# Altium schematic symbol library Connector_Generic_Shielded.SchLib: 335 symbols (part 7 of 8)
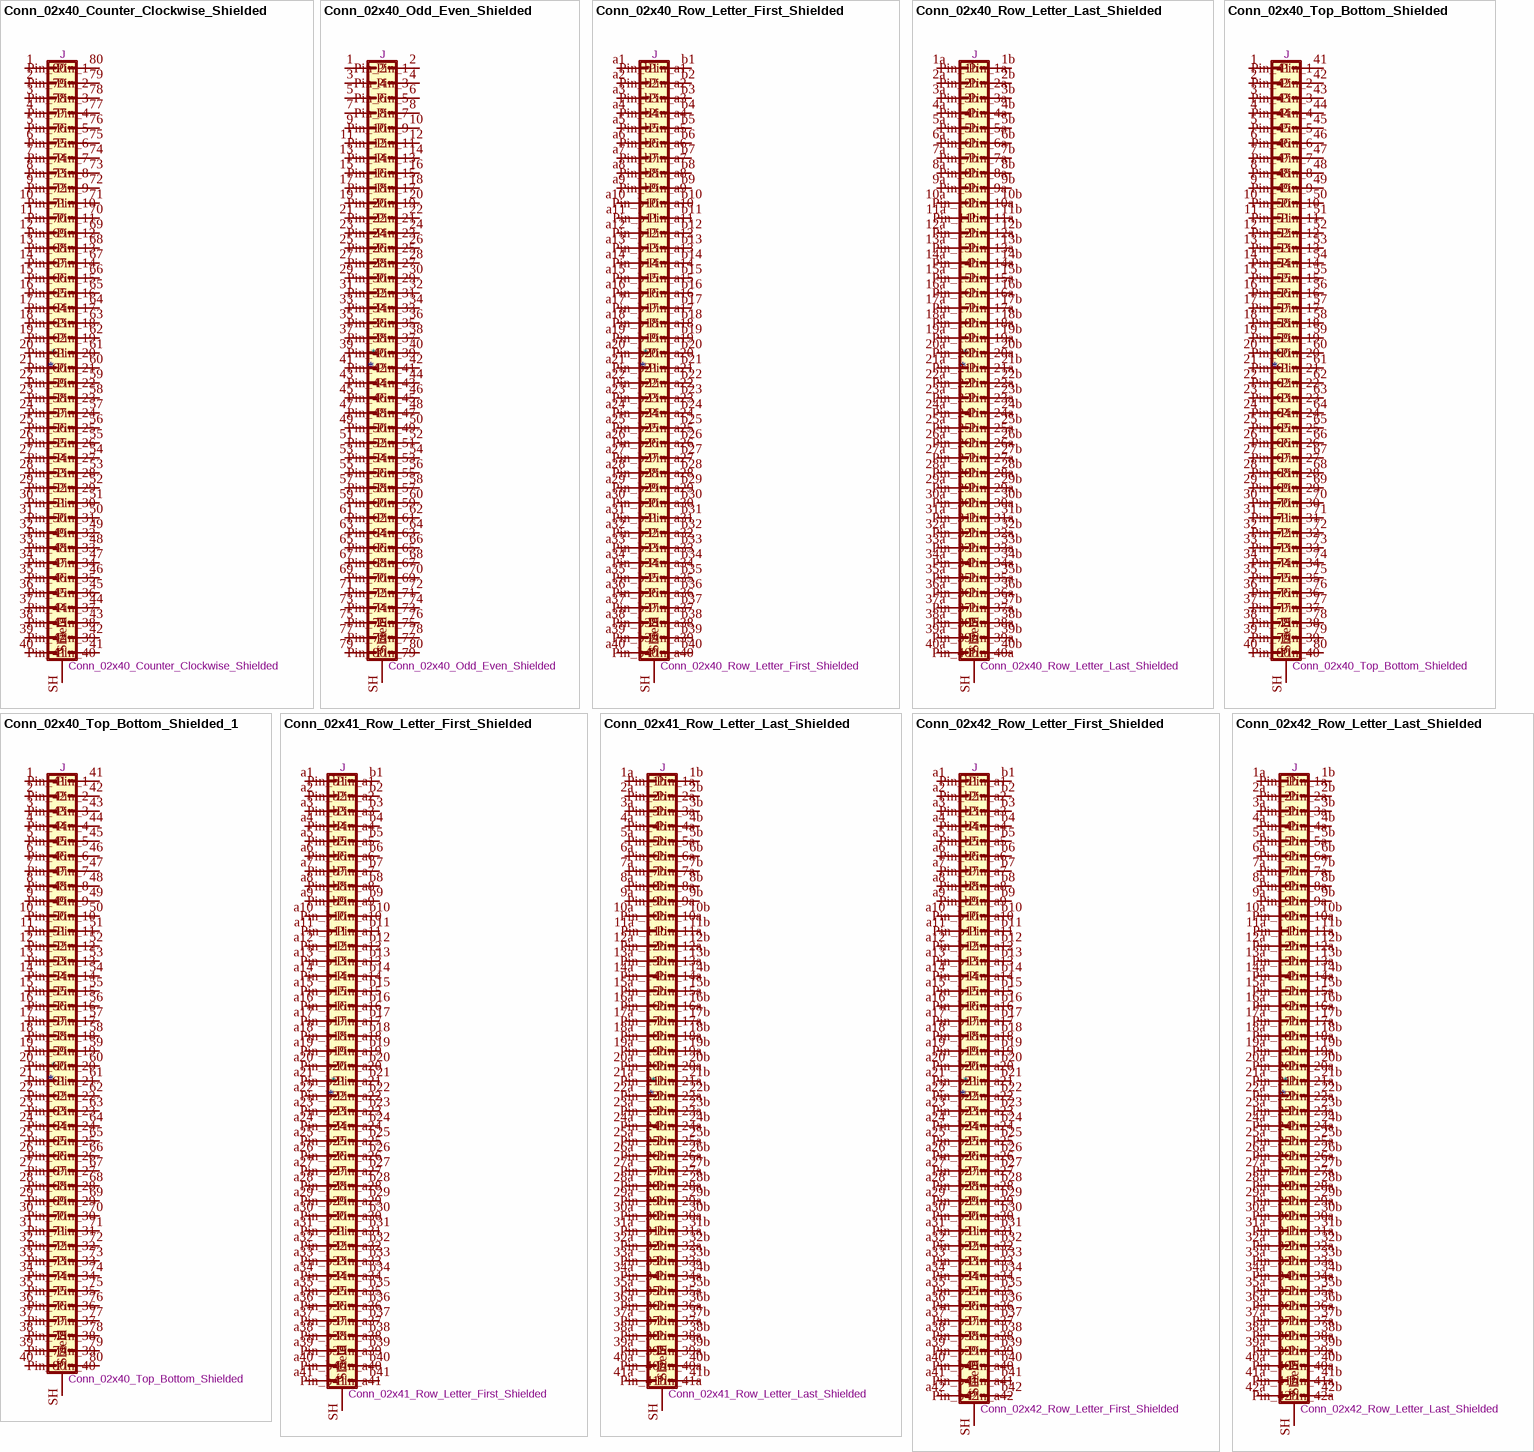
[diagram p31: symbols Conn_02x40_Counter_Clockwise_Shielded to Conn_02x42_Row_Letter_Last_Shielded]

## Conn_02x40_Odd_Even_Shielded
designator *  value Conn_02x40_Odd_Even_Shielded  Reference: J
Generic shielded connector, double row, 02x40, odd/even pin numbering scheme (row 1 odd numbers, row 2 even numbers), script generated (kicad-library-utils/schlib/autogen/connector/); ki_fp_filters: Connector*:*_2x??-1SH*; Datasheet: ~; Description_: Generic shielded connector, double row, 02x40, odd/even pin numbering scheme (row 1 odd numbers, row 2 even numbers), script generated (kicad-library-utils/schlib/autogen/connector/); ki_keywords: connector
pins: 1 Pin_1, 2 Pin_2, 3 Pin_3, 4 Pin_4, 5 Pin_5, 6 Pin_6, 7 Pin_7, 8 Pin_8, 9 Pin_9, 10 Pin_10, 11 Pin_11, 12 Pin_12, 13 Pin_13, 14 Pin_14, 15 Pin_15, 16 Pin_16, 17 Pin_17, 18 Pin_18, 19 Pin_19, 20 Pin_20, 21 Pin_21, 22 Pin_22, 23 Pin_23, 24 Pin_24, 25 Pin_25, 26 Pin_26, 27 Pin_27, 28 Pin_28, 29 Pin_29, 30 Pin_30, 31 Pin_31, 32 Pin_32, 33 Pin_33, 34 Pin_34, 35 Pin_35, 36 Pin_36, 37 Pin_37, 38 Pin_38, 39 Pin_39, 40 Pin_40, 41 Pin_41, 42 Pin_42, 43 Pin_43, 44 Pin_44, 45 Pin_45, 46 Pin_46, 47 Pin_47, 48 Pin_48, 49 Pin_49, 50 Pin_50, 51 Pin_51, 52 Pin_52, 53 Pin_53, 54 Pin_54, 55 Pin_55, 56 Pin_56, 57 Pin_57, 58 Pin_58, 59 Pin_59, 60 Pin_60, 61 Pin_61, 62 Pin_62, 63 Pin_63, 64 Pin_64, 65 Pin_65, 66 Pin_66, 67 Pin_67, 68 Pin_68, 69 Pin_69, 70 Pin_70, 71 Pin_71, 72 Pin_72, 73 Pin_73, 74 Pin_74, 75 Pin_75, 76 Pin_76, 77 Pin_77, 78 Pin_78, 79 Pin_79, 80 Pin_80, SH Shield

## Conn_02x40_Row_Letter_First_Shielded
designator *  value Conn_02x40_Row_Letter_First_Shielded  Reference: J
Generic shielded connector, double row, 02x40, row letter first pin numbering scheme (pin number consists of a letter for the row and a number for the pin index in this row. a1, ..., aN; b1, ..., bN), script generated (kicad-library-utils/schlib/autogen/connector/); ki_fp_filters: Connector*:*_2x??-1SH*; Datasheet: ~; Description_: Generic shielded connector, double row, 02x40, row letter first pin numbering scheme (pin number consists of a letter for the row and a number for the pin index in this row. a1, ..., aN; b1, ..., bN), script generated (kicad-library-utils/schlib/autogen/connector/); ki_keywords: connector
pins: a1 Pin_a1, a2 Pin_a2, a3 Pin_a3, a4 Pin_a4, a5 Pin_a5, a6 Pin_a6, a7 Pin_a7, a8 Pin_a8, a9 Pin_a9, a10 Pin_a10, a11 Pin_a11, a12 Pin_a12, a13 Pin_a13, a14 Pin_a14, a15 Pin_a15, a16 Pin_a16, a17 Pin_a17, a18 Pin_a18, a19 Pin_a19, a20 Pin_a20, a21 Pin_a21, a22 Pin_a22, a23 Pin_a23, a24 Pin_a24, a25 Pin_a25, a26 Pin_a26, a27 Pin_a27, a28 Pin_a28, a29 Pin_a29, a30 Pin_a30, a31 Pin_a31, a32 Pin_a32, a33 Pin_a33, a34 Pin_a34, a35 Pin_a35, a36 Pin_a36, a37 Pin_a37, a38 Pin_a38, a39 Pin_a39, a40 Pin_a40, b1 Pin_b1, b2 Pin_b2, b3 Pin_b3, b4 Pin_b4, b5 Pin_b5, b6 Pin_b6, b7 Pin_b7, b8 Pin_b8, b9 Pin_b9, b10 Pin_b10, b11 Pin_b11, b12 Pin_b12, b13 Pin_b13, b14 Pin_b14, b15 Pin_b15, b16 Pin_b16, b17 Pin_b17, b18 Pin_b18, b19 Pin_b19, b20 Pin_b20, b21 Pin_b21, b22 Pin_b22, b23 Pin_b23, b24 Pin_b24, b25 Pin_b25, b26 Pin_b26, b27 Pin_b27, b28 Pin_b28, b29 Pin_b29, b30 Pin_b30, b31 Pin_b31, b32 Pin_b32, b33 Pin_b33, b34 Pin_b34, b35 Pin_b35, b36 Pin_b36, b37 Pin_b37, b38 Pin_b38, b39 Pin_b39, b40 Pin_b40, SH Shield

## Conn_02x40_Row_Letter_Last_Shielded
designator *  value Conn_02x40_Row_Letter_Last_Shielded  Reference: J
Generic shielded connector, double row, 02x40, row letter last pin numbering scheme (pin number consists of a letter for the row and a number for the pin index in this row. 1a, ..., Na; 1b, ..., Nb)), script generated (kicad-library-utils/schlib/autogen/connector/); ki_fp_filters: Connector*:*_2x??-1SH*; Datasheet: ~; Description_: Generic shielded connector, double row, 02x40, row letter last pin numbering scheme (pin number consists of a letter for the row and a number for the pin index in this row. 1a, ..., Na; 1b, ..., Nb)), script generated (kicad-library-utils/schlib/autogen/connector/); ki_keywords: connector
pins: 1a Pin_1a, 1b Pin_1b, 2a Pin_2a, 2b Pin_2b, 3a Pin_3a, 3b Pin_3b, 4a Pin_4a, 4b Pin_4b, 5a Pin_5a, 5b Pin_5b, 6a Pin_6a, 6b Pin_6b, 7a Pin_7a, 7b Pin_7b, 8a Pin_8a, 8b Pin_8b, 9a Pin_9a, 9b Pin_9b, 10a Pin_10a, 10b Pin_10b, 11a Pin_11a, 11b Pin_11b, 12a Pin_12a, 12b Pin_12b, 13a Pin_13a, 13b Pin_13b, 14a Pin_14a, 14b Pin_14b, 15a Pin_15a, 15b Pin_15b, 16a Pin_16a, 16b Pin_16b, 17a Pin_17a, 17b Pin_17b, 18a Pin_18a, 18b Pin_18b, 19a Pin_19a, 19b Pin_19b, 20a Pin_20a, 20b Pin_20b, 21a Pin_21a, 21b Pin_21b, 22a Pin_22a, 22b Pin_22b, 23a Pin_23a, 23b Pin_23b, 24a Pin_24a, 24b Pin_24b, 25a Pin_25a, 25b Pin_25b, 26a Pin_26a, 26b Pin_26b, 27a Pin_27a, 27b Pin_27b, 28a Pin_28a, 28b Pin_28b, 29a Pin_29a, 29b Pin_29b, 30a Pin_30a, 30b Pin_30b, 31a Pin_31a, 31b Pin_31b, 32a Pin_32a, 32b Pin_32b, 33a Pin_33a, 33b Pin_33b, 34a Pin_34a, 34b Pin_34b, 35a Pin_35a, 35b Pin_35b, 36a Pin_36a, 36b Pin_36b, 37a Pin_37a, 37b Pin_37b, 38a Pin_38a, 38b Pin_38b, 39a Pin_39a, 39b Pin_39b, 40a Pin_40a, 40b Pin_40b, SH Shield

## Conn_02x40_Top_Bottom_Shielded
designator *  value Conn_02x40_Top_Bottom_Shielded  Reference: J
Generic shielded connector, double row, 02x40, top/bottom pin numbering scheme (row 1: 1...pins_per_row, row2: pins_per_row+1 ... num_pins), script generated (kicad-library-utils/schlib/autogen/connector/); ki_fp_filters: Connector*:*_2x??-1SH*; Datasheet: ~; Description_: Generic shielded connector, double row, 02x40, top/bottom pin numbering scheme (row 1: 1...pins_per_row, row2: pins_per_row+1 ... num_pins), script generated (kicad-library-utils/schlib/autogen/connector/); ki_keywords: connector
pins: 1 Pin_1, 2 Pin_2, 3 Pin_3, 4 Pin_4, 5 Pin_5, 6 Pin_6, 7 Pin_7, 8 Pin_8, 9 Pin_9, 10 Pin_10, 11 Pin_11, 12 Pin_12, 13 Pin_13, 14 Pin_14, 15 Pin_15, 16 Pin_16, 17 Pin_17, 18 Pin_18, 19 Pin_19, 20 Pin_20, 21 Pin_21, 22 Pin_22, 23 Pin_23, 24 Pin_24, 25 Pin_25, 26 Pin_26, 27 Pin_27, 28 Pin_28, 29 Pin_29, 30 Pin_30, 31 Pin_31, 32 Pin_32, 33 Pin_33, 34 Pin_34, 35 Pin_35, 36 Pin_36, 37 Pin_37, 38 Pin_38, 39 Pin_39, 40 Pin_40, 41 Pin_41, 42 Pin_42, 43 Pin_43, 44 Pin_44, 45 Pin_45, 46 Pin_46, 47 Pin_47, 48 Pin_48, 49 Pin_49, 50 Pin_50, 51 Pin_51, 52 Pin_52, 53 Pin_53, 54 Pin_54, 55 Pin_55, 56 Pin_56, 57 Pin_57, 58 Pin_58, 59 Pin_59, 60 Pin_60, 61 Pin_61, 62 Pin_62, 63 Pin_63, 64 Pin_64, 65 Pin_65, 66 Pin_66, 67 Pin_67, 68 Pin_68, 69 Pin_69, 70 Pin_70, 71 Pin_71, 72 Pin_72, 73 Pin_73, 74 Pin_74, 75 Pin_75, 76 Pin_76, 77 Pin_77, 78 Pin_78, 79 Pin_79, 80 Pin_80, SH Shield

## Conn_02x40_Top_Bottom_Shielded_1
designator *  value Conn_02x40_Top_Bottom_Shielded  Reference: J
"Generic shielded connector, double row, 02x40, top/bottom pin numbering scheme (row 1: 1...pins_per_row, row2: pins_per_row+1 ... num_pins), script generated"; ki_fp_filters: Connector*:*_2x??-1SH*; Datasheet: ~; Description_: "Generic shielded connector, double row, 02x40, top/bottom pin numbering scheme (row 1: 1...pins_per_row, row2: pins_per_row+1 ... num_pins), script generated"; ki_keywords: connector
pins: 1 Pin_1, 2 Pin_2, 3 Pin_3, 4 Pin_4, 5 Pin_5, 6 Pin_6, 7 Pin_7, 8 Pin_8, 9 Pin_9, 10 Pin_10, 11 Pin_11, 12 Pin_12, 13 Pin_13, 14 Pin_14, 15 Pin_15, 16 Pin_16, 17 Pin_17, 18 Pin_18, 19 Pin_19, 20 Pin_20, 21 Pin_21, 22 Pin_22, 23 Pin_23, 24 Pin_24, 25 Pin_25, 26 Pin_26, 27 Pin_27, 28 Pin_28, 29 Pin_29, 30 Pin_30, 31 Pin_31, 32 Pin_32, 33 Pin_33, 34 Pin_34, 35 Pin_35, 36 Pin_36, 37 Pin_37, 38 Pin_38, 39 Pin_39, 40 Pin_40, 41 Pin_41, 42 Pin_42, 43 Pin_43, 44 Pin_44, 45 Pin_45, 46 Pin_46, 47 Pin_47, 48 Pin_48, 49 Pin_49, 50 Pin_50, 51 Pin_51, 52 Pin_52, 53 Pin_53, 54 Pin_54, 55 Pin_55, 56 Pin_56, 57 Pin_57, 58 Pin_58, 59 Pin_59, 60 Pin_60, 61 Pin_61, 62 Pin_62, 63 Pin_63, 64 Pin_64, 65 Pin_65, 66 Pin_66, 67 Pin_67, 68 Pin_68, 69 Pin_69, 70 Pin_70, 71 Pin_71, 72 Pin_72, 73 Pin_73, 74 Pin_74, 75 Pin_75, 76 Pin_76, 77 Pin_77, 78 Pin_78, 79 Pin_79, 80 Pin_80, SH Shield

## Conn_02x41_Row_Letter_First_Shielded
designator *  value Conn_02x41_Row_Letter_First_Shielded  Reference: J
"Generic shielded connector, double row, 02x41, row letter first pin numbering scheme (pin number consists of a letter for the row and a number for the pin index in this row. a1, ..., aN; b1, ..., bN), script generated"; ki_fp_filters: Connector*:*_2x??-1SH*; Datasheet: ~; Description_: "Generic shielded connector, double row, 02x41, row letter first pin numbering scheme (pin number consists of a letter for the row and a number for the pin index in this row. a1, ..., aN; b1, ..., bN), script generated"; ki_keywords: connector
pins: a1 Pin_a1, a2 Pin_a2, a3 Pin_a3, a4 Pin_a4, a5 Pin_a5, a6 Pin_a6, a7 Pin_a7, a8 Pin_a8, a9 Pin_a9, a10 Pin_a10, a11 Pin_a11, a12 Pin_a12, a13 Pin_a13, a14 Pin_a14, a15 Pin_a15, a16 Pin_a16, a17 Pin_a17, a18 Pin_a18, a19 Pin_a19, a20 Pin_a20, a21 Pin_a21, a22 Pin_a22, a23 Pin_a23, a24 Pin_a24, a25 Pin_a25, a26 Pin_a26, a27 Pin_a27, a28 Pin_a28, a29 Pin_a29, a30 Pin_a30, a31 Pin_a31, a32 Pin_a32, a33 Pin_a33, a34 Pin_a34, a35 Pin_a35, a36 Pin_a36, a37 Pin_a37, a38 Pin_a38, a39 Pin_a39, a40 Pin_a40, a41 Pin_a41, b1 Pin_b1, b2 Pin_b2, b3 Pin_b3, b4 Pin_b4, b5 Pin_b5, b6 Pin_b6, b7 Pin_b7, b8 Pin_b8, b9 Pin_b9, b10 Pin_b10, b11 Pin_b11, b12 Pin_b12, b13 Pin_b13, b14 Pin_b14, b15 Pin_b15, b16 Pin_b16, b17 Pin_b17, b18 Pin_b18, b19 Pin_b19, b20 Pin_b20, b21 Pin_b21, b22 Pin_b22, b23 Pin_b23, b24 Pin_b24, b25 Pin_b25, b26 Pin_b26, b27 Pin_b27, b28 Pin_b28, b29 Pin_b29, b30 Pin_b30, b31 Pin_b31, b32 Pin_b32, b33 Pin_b33, b34 Pin_b34, b35 Pin_b35, b36 Pin_b36, b37 Pin_b37, b38 Pin_b38, b39 Pin_b39, b40 Pin_b40, b41 Pin_b41, SH Shield

## Conn_02x41_Row_Letter_Last_Shielded
designator *  value Conn_02x41_Row_Letter_Last_Shielded  Reference: J
"Generic shielded connector, double row, 02x41, row letter last pin numbering scheme (pin number consists of a number for the row and a letter for the pin index in this row. 1a, ..., Na; 1b, ..., Nb)), script generated"; ki_fp_filters: Connector*:*_2x??-1SH*; Datasheet: ~; Description_: "Generic shielded connector, double row, 02x41, row letter last pin numbering scheme (pin number consists of a number for the row and a letter for the pin index in this row. 1a, ..., Na; 1b, ..., Nb)), script generated"; ki_keywords: connector
pins: 1a Pin_1a, 1b Pin_1b, 2a Pin_2a, 2b Pin_2b, 3a Pin_3a, 3b Pin_3b, 4a Pin_4a, 4b Pin_4b, 5a Pin_5a, 5b Pin_5b, 6a Pin_6a, 6b Pin_6b, 7a Pin_7a, 7b Pin_7b, 8a Pin_8a, 8b Pin_8b, 9a Pin_9a, 9b Pin_9b, 10a Pin_10a, 10b Pin_10b, 11a Pin_11a, 11b Pin_11b, 12a Pin_12a, 12b Pin_12b, 13a Pin_13a, 13b Pin_13b, 14a Pin_14a, 14b Pin_14b, 15a Pin_15a, 15b Pin_15b, 16a Pin_16a, 16b Pin_16b, 17a Pin_17a, 17b Pin_17b, 18a Pin_18a, 18b Pin_18b, 19a Pin_19a, 19b Pin_19b, 20a Pin_20a, 20b Pin_20b, 21a Pin_21a, 21b Pin_21b, 22a Pin_22a, 22b Pin_22b, 23a Pin_23a, 23b Pin_23b, 24a Pin_24a, 24b Pin_24b, 25a Pin_25a, 25b Pin_25b, 26a Pin_26a, 26b Pin_26b, 27a Pin_27a, 27b Pin_27b, 28a Pin_28a, 28b Pin_28b, 29a Pin_29a, 29b Pin_29b, 30a Pin_30a, 30b Pin_30b, 31a Pin_31a, 31b Pin_31b, 32a Pin_32a, 32b Pin_32b, 33a Pin_33a, 33b Pin_33b, 34a Pin_34a, 34b Pin_34b, 35a Pin_35a, 35b Pin_35b, 36a Pin_36a, 36b Pin_36b, 37a Pin_37a, 37b Pin_37b, 38a Pin_38a, 38b Pin_38b, 39a Pin_39a, 39b Pin_39b, 40a Pin_40a, 40b Pin_40b, 41a Pin_41a, 41b Pin_41b, SH Shield

## Conn_02x42_Row_Letter_First_Shielded
designator *  value Conn_02x42_Row_Letter_First_Shielded  Reference: J
"Generic shielded connector, double row, 02x42, row letter first pin numbering scheme (pin number consists of a letter for the row and a number for the pin index in this row. a1, ..., aN; b1, ..., bN), script generated"; ki_fp_filters: Connector*:*_2x??-1SH*; Datasheet: ~; Description_: "Generic shielded connector, double row, 02x42, row letter first pin numbering scheme (pin number consists of a letter for the row and a number for the pin index in this row. a1, ..., aN; b1, ..., bN), script generated"; ki_keywords: connector
pins: a1 Pin_a1, a2 Pin_a2, a3 Pin_a3, a4 Pin_a4, a5 Pin_a5, a6 Pin_a6, a7 Pin_a7, a8 Pin_a8, a9 Pin_a9, a10 Pin_a10, a11 Pin_a11, a12 Pin_a12, a13 Pin_a13, a14 Pin_a14, a15 Pin_a15, a16 Pin_a16, a17 Pin_a17, a18 Pin_a18, a19 Pin_a19, a20 Pin_a20, a21 Pin_a21, a22 Pin_a22, a23 Pin_a23, a24 Pin_a24, a25 Pin_a25, a26 Pin_a26, a27 Pin_a27, a28 Pin_a28, a29 Pin_a29, a30 Pin_a30, a31 Pin_a31, a32 Pin_a32, a33 Pin_a33, a34 Pin_a34, a35 Pin_a35, a36 Pin_a36, a37 Pin_a37, a38 Pin_a38, a39 Pin_a39, a40 Pin_a40, a41 Pin_a41, a42 Pin_a42, b1 Pin_b1, b2 Pin_b2, b3 Pin_b3, b4 Pin_b4, b5 Pin_b5, b6 Pin_b6, b7 Pin_b7, b8 Pin_b8, b9 Pin_b9, b10 Pin_b10, b11 Pin_b11, b12 Pin_b12, b13 Pin_b13, b14 Pin_b14, b15 Pin_b15, b16 Pin_b16, b17 Pin_b17, b18 Pin_b18, b19 Pin_b19, b20 Pin_b20, b21 Pin_b21, b22 Pin_b22, b23 Pin_b23, b24 Pin_b24, b25 Pin_b25, b26 Pin_b26, b27 Pin_b27, b28 Pin_b28, b29 Pin_b29, b30 Pin_b30, b31 Pin_b31, b32 Pin_b32, b33 Pin_b33, b34 Pin_b34, b35 Pin_b35, b36 Pin_b36, b37 Pin_b37, b38 Pin_b38, b39 Pin_b39, b40 Pin_b40, b41 Pin_b41, b42 Pin_b42, SH Shield

## Conn_02x42_Row_Letter_Last_Shielded
designator *  value Conn_02x42_Row_Letter_Last_Shielded  Reference: J
"Generic shielded connector, double row, 02x42, row letter last pin numbering scheme (pin number consists of a number for the row and a letter for the pin index in this row. 1a, ..., Na; 1b, ..., Nb)), script generated"; ki_fp_filters: Connector*:*_2x??-1SH*; Datasheet: ~; Description_: "Generic shielded connector, double row, 02x42, row letter last pin numbering scheme (pin number consists of a number for the row and a letter for the pin index in this row. 1a, ..., Na; 1b, ..., Nb)), script generated"; ki_keywords: connector
pins: 1a Pin_1a, 1b Pin_1b, 2a Pin_2a, 2b Pin_2b, 3a Pin_3a, 3b Pin_3b, 4a Pin_4a, 4b Pin_4b, 5a Pin_5a, 5b Pin_5b, 6a Pin_6a, 6b Pin_6b, 7a Pin_7a, 7b Pin_7b, 8a Pin_8a, 8b Pin_8b, 9a Pin_9a, 9b Pin_9b, 10a Pin_10a, 10b Pin_10b, 11a Pin_11a, 11b Pin_11b, 12a Pin_12a, 12b Pin_12b, 13a Pin_13a, 13b Pin_13b, 14a Pin_14a, 14b Pin_14b, 15a Pin_15a, 15b Pin_15b, 16a Pin_16a, 16b Pin_16b, 17a Pin_17a, 17b Pin_17b, 18a Pin_18a, 18b Pin_18b, 19a Pin_19a, 19b Pin_19b, 20a Pin_20a, 20b Pin_20b, 21a Pin_21a, 21b Pin_21b, 22a Pin_22a, 22b Pin_22b, 23a Pin_23a, 23b Pin_23b, 24a Pin_24a, 24b Pin_24b, 25a Pin_25a, 25b Pin_25b, 26a Pin_26a, 26b Pin_26b, 27a Pin_27a, 27b Pin_27b, 28a Pin_28a, 28b Pin_28b, 29a Pin_29a, 29b Pin_29b, 30a Pin_30a, 30b Pin_30b, 31a Pin_31a, 31b Pin_31b, 32a Pin_32a, 32b Pin_32b, 33a Pin_33a, 33b Pin_33b, 34a Pin_34a, 34b Pin_34b, 35a Pin_35a, 35b Pin_35b, 36a Pin_36a, 36b Pin_36b, 37a Pin_37a, 37b Pin_37b, 38a Pin_38a, 38b Pin_38b, 39a Pin_39a, 39b Pin_39b, 40a Pin_40a, 40b Pin_40b, 41a Pin_41a, 41b Pin_41b, 42a Pin_42a, 42b Pin_42b, SH Shield

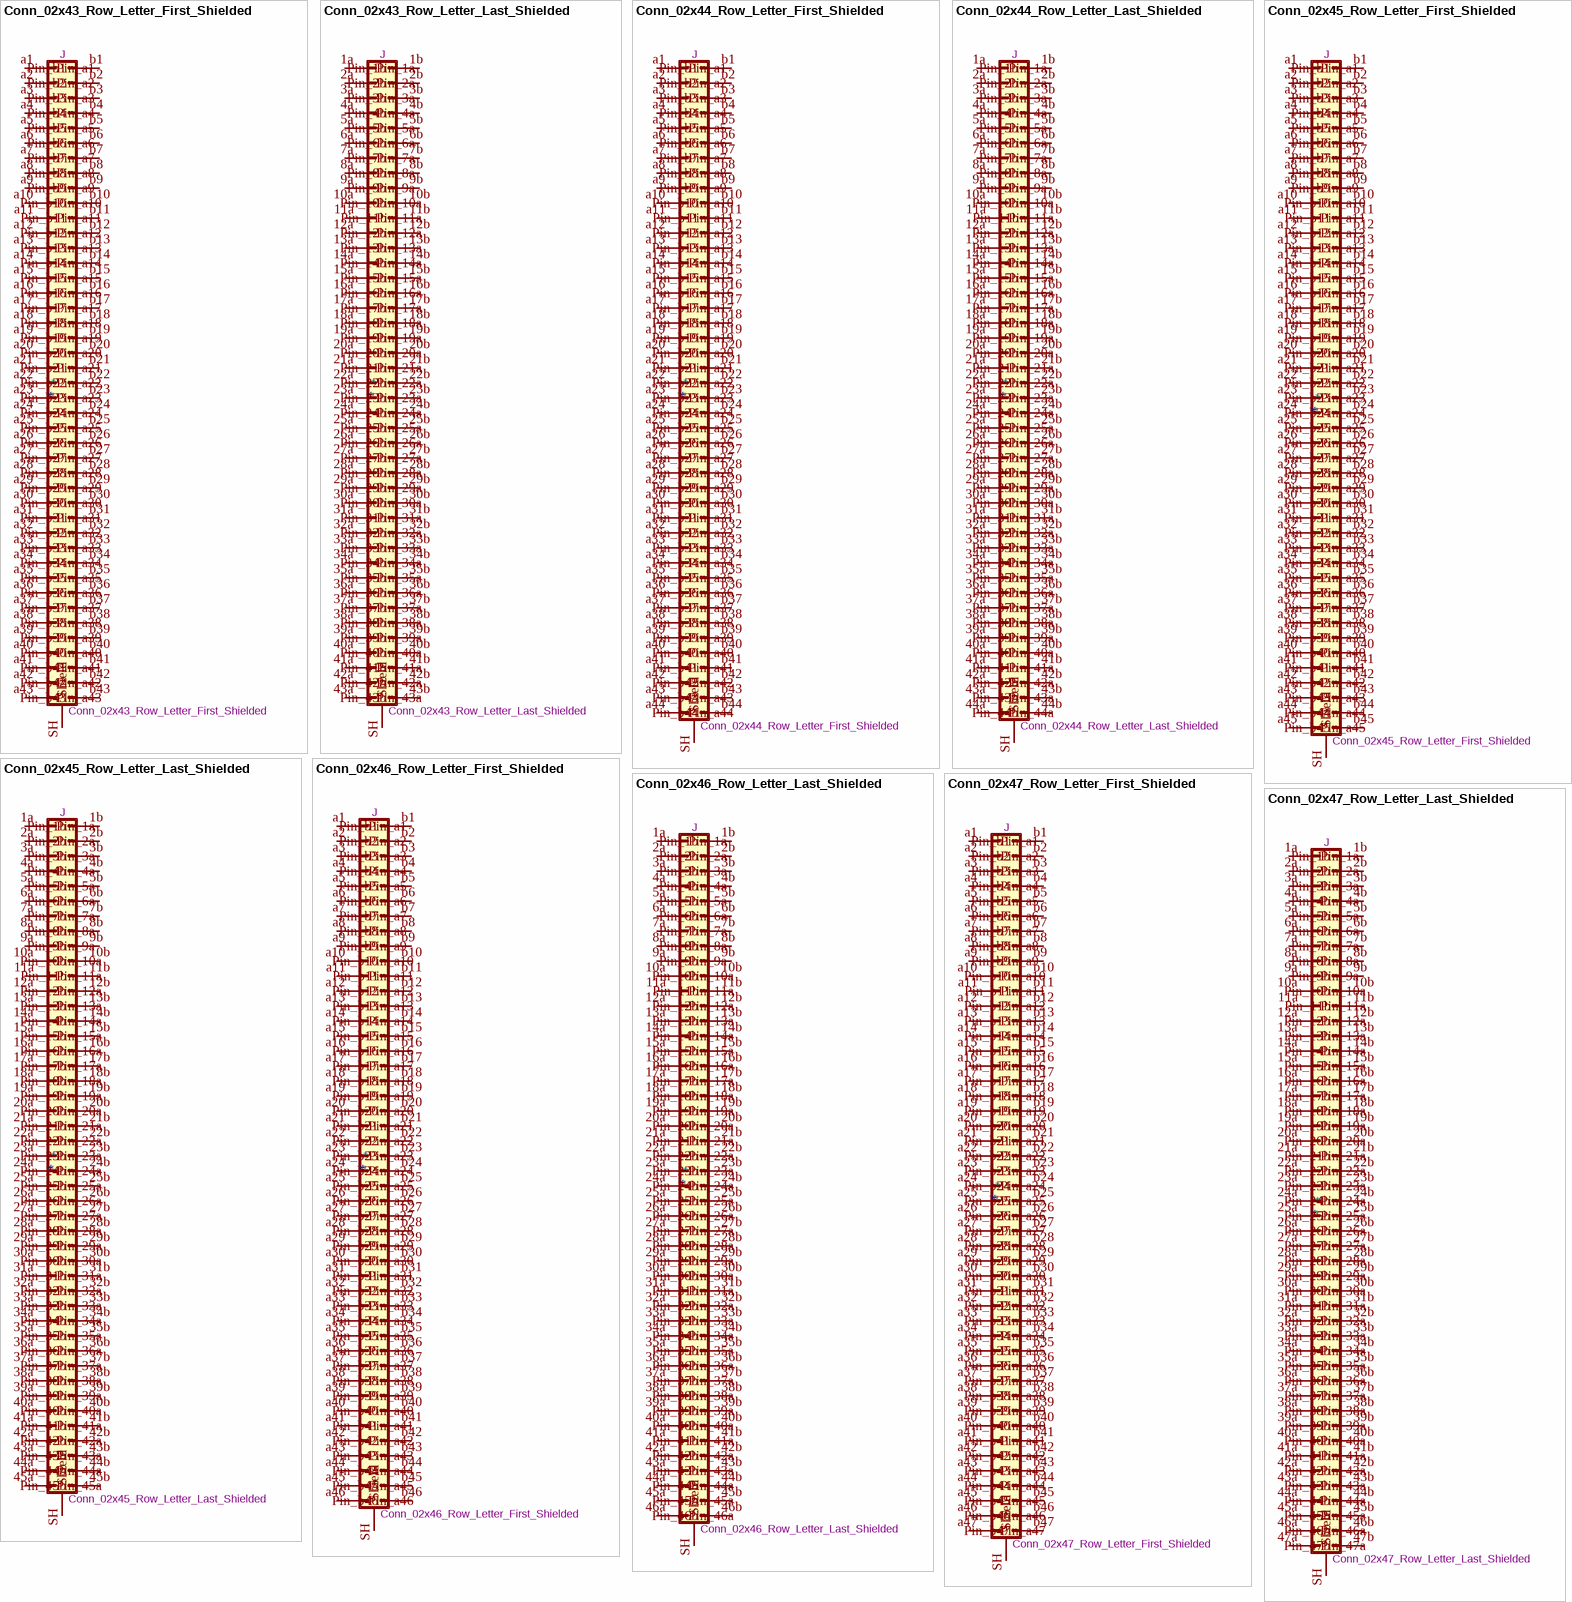
[diagram p19: symbols Conn_02x43_Row_Letter_First_Shielded to Conn_02x47_Row_Letter_Last_Shielded]

## Conn_02x43_Row_Letter_First_Shielded
designator *  value Conn_02x43_Row_Letter_First_Shielded  Reference: J
"Generic shielded connector, double row, 02x43, row letter first pin numbering scheme (pin number consists of a letter for the row and a number for the pin index in this row. a1, ..., aN; b1, ..., bN), script generated"; ki_fp_filters: Connector*:*_2x??-1SH*; Datasheet: ~; Description_: "Generic shielded connector, double row, 02x43, row letter first pin numbering scheme (pin number consists of a letter for the row and a number for the pin index in this row. a1, ..., aN; b1, ..., bN), script generated"; ki_keywords: connector
pins: a1 Pin_a1, a2 Pin_a2, a3 Pin_a3, a4 Pin_a4, a5 Pin_a5, a6 Pin_a6, a7 Pin_a7, a8 Pin_a8, a9 Pin_a9, a10 Pin_a10, a11 Pin_a11, a12 Pin_a12, a13 Pin_a13, a14 Pin_a14, a15 Pin_a15, a16 Pin_a16, a17 Pin_a17, a18 Pin_a18, a19 Pin_a19, a20 Pin_a20, a21 Pin_a21, a22 Pin_a22, a23 Pin_a23, a24 Pin_a24, a25 Pin_a25, a26 Pin_a26, a27 Pin_a27, a28 Pin_a28, a29 Pin_a29, a30 Pin_a30, a31 Pin_a31, a32 Pin_a32, a33 Pin_a33, a34 Pin_a34, a35 Pin_a35, a36 Pin_a36, a37 Pin_a37, a38 Pin_a38, a39 Pin_a39, a40 Pin_a40, a41 Pin_a41, a42 Pin_a42, a43 Pin_a43, b1 Pin_b1, b2 Pin_b2, b3 Pin_b3, b4 Pin_b4, b5 Pin_b5, b6 Pin_b6, b7 Pin_b7, b8 Pin_b8, b9 Pin_b9, b10 Pin_b10, b11 Pin_b11, b12 Pin_b12, b13 Pin_b13, b14 Pin_b14, b15 Pin_b15, b16 Pin_b16, b17 Pin_b17, b18 Pin_b18, b19 Pin_b19, b20 Pin_b20, b21 Pin_b21, b22 Pin_b22, b23 Pin_b23, b24 Pin_b24, b25 Pin_b25, b26 Pin_b26, b27 Pin_b27, b28 Pin_b28, b29 Pin_b29, b30 Pin_b30, b31 Pin_b31, b32 Pin_b32, b33 Pin_b33, b34 Pin_b34, b35 Pin_b35, b36 Pin_b36, b37 Pin_b37, b38 Pin_b38, b39 Pin_b39, b40 Pin_b40, b41 Pin_b41, b42 Pin_b42, b43 Pin_b43, SH Shield

## Conn_02x43_Row_Letter_Last_Shielded
designator *  value Conn_02x43_Row_Letter_Last_Shielded  Reference: J
"Generic shielded connector, double row, 02x43, row letter last pin numbering scheme (pin number consists of a number for the row and a letter for the pin index in this row. 1a, ..., Na; 1b, ..., Nb)), script generated"; ki_fp_filters: Connector*:*_2x??-1SH*; Datasheet: ~; Description_: "Generic shielded connector, double row, 02x43, row letter last pin numbering scheme (pin number consists of a number for the row and a letter for the pin index in this row. 1a, ..., Na; 1b, ..., Nb)), script generated"; ki_keywords: connector
pins: 1a Pin_1a, 1b Pin_1b, 2a Pin_2a, 2b Pin_2b, 3a Pin_3a, 3b Pin_3b, 4a Pin_4a, 4b Pin_4b, 5a Pin_5a, 5b Pin_5b, 6a Pin_6a, 6b Pin_6b, 7a Pin_7a, 7b Pin_7b, 8a Pin_8a, 8b Pin_8b, 9a Pin_9a, 9b Pin_9b, 10a Pin_10a, 10b Pin_10b, 11a Pin_11a, 11b Pin_11b, 12a Pin_12a, 12b Pin_12b, 13a Pin_13a, 13b Pin_13b, 14a Pin_14a, 14b Pin_14b, 15a Pin_15a, 15b Pin_15b, 16a Pin_16a, 16b Pin_16b, 17a Pin_17a, 17b Pin_17b, 18a Pin_18a, 18b Pin_18b, 19a Pin_19a, 19b Pin_19b, 20a Pin_20a, 20b Pin_20b, 21a Pin_21a, 21b Pin_21b, 22a Pin_22a, 22b Pin_22b, 23a Pin_23a, 23b Pin_23b, 24a Pin_24a, 24b Pin_24b, 25a Pin_25a, 25b Pin_25b, 26a Pin_26a, 26b Pin_26b, 27a Pin_27a, 27b Pin_27b, 28a Pin_28a, 28b Pin_28b, 29a Pin_29a, 29b Pin_29b, 30a Pin_30a, 30b Pin_30b, 31a Pin_31a, 31b Pin_31b, 32a Pin_32a, 32b Pin_32b, 33a Pin_33a, 33b Pin_33b, 34a Pin_34a, 34b Pin_34b, 35a Pin_35a, 35b Pin_35b, 36a Pin_36a, 36b Pin_36b, 37a Pin_37a, 37b Pin_37b, 38a Pin_38a, 38b Pin_38b, 39a Pin_39a, 39b Pin_39b, 40a Pin_40a, 40b Pin_40b, 41a Pin_41a, 41b Pin_41b, 42a Pin_42a, 42b Pin_42b, 43a Pin_43a, 43b Pin_43b, SH Shield

## Conn_02x44_Row_Letter_First_Shielded
designator *  value Conn_02x44_Row_Letter_First_Shielded  Reference: J
"Generic shielded connector, double row, 02x44, row letter first pin numbering scheme (pin number consists of a letter for the row and a number for the pin index in this row. a1, ..., aN; b1, ..., bN), script generated"; ki_fp_filters: Connector*:*_2x??-1SH*; Datasheet: ~; Description_: "Generic shielded connector, double row, 02x44, row letter first pin numbering scheme (pin number consists of a letter for the row and a number for the pin index in this row. a1, ..., aN; b1, ..., bN), script generated"; ki_keywords: connector
pins: a1 Pin_a1, a2 Pin_a2, a3 Pin_a3, a4 Pin_a4, a5 Pin_a5, a6 Pin_a6, a7 Pin_a7, a8 Pin_a8, a9 Pin_a9, a10 Pin_a10, a11 Pin_a11, a12 Pin_a12, a13 Pin_a13, a14 Pin_a14, a15 Pin_a15, a16 Pin_a16, a17 Pin_a17, a18 Pin_a18, a19 Pin_a19, a20 Pin_a20, a21 Pin_a21, a22 Pin_a22, a23 Pin_a23, a24 Pin_a24, a25 Pin_a25, a26 Pin_a26, a27 Pin_a27, a28 Pin_a28, a29 Pin_a29, a30 Pin_a30, a31 Pin_a31, a32 Pin_a32, a33 Pin_a33, a34 Pin_a34, a35 Pin_a35, a36 Pin_a36, a37 Pin_a37, a38 Pin_a38, a39 Pin_a39, a40 Pin_a40, a41 Pin_a41, a42 Pin_a42, a43 Pin_a43, a44 Pin_a44, b1 Pin_b1, b2 Pin_b2, b3 Pin_b3, b4 Pin_b4, b5 Pin_b5, b6 Pin_b6, b7 Pin_b7, b8 Pin_b8, b9 Pin_b9, b10 Pin_b10, b11 Pin_b11, b12 Pin_b12, b13 Pin_b13, b14 Pin_b14, b15 Pin_b15, b16 Pin_b16, b17 Pin_b17, b18 Pin_b18, b19 Pin_b19, b20 Pin_b20, b21 Pin_b21, b22 Pin_b22, b23 Pin_b23, b24 Pin_b24, b25 Pin_b25, b26 Pin_b26, b27 Pin_b27, b28 Pin_b28, b29 Pin_b29, b30 Pin_b30, b31 Pin_b31, b32 Pin_b32, b33 Pin_b33, b34 Pin_b34, b35 Pin_b35, b36 Pin_b36, b37 Pin_b37, b38 Pin_b38, b39 Pin_b39, b40 Pin_b40, b41 Pin_b41, b42 Pin_b42, b43 Pin_b43, b44 Pin_b44, SH Shield

## Conn_02x44_Row_Letter_Last_Shielded
designator *  value Conn_02x44_Row_Letter_Last_Shielded  Reference: J
"Generic shielded connector, double row, 02x44, row letter last pin numbering scheme (pin number consists of a number for the row and a letter for the pin index in this row. 1a, ..., Na; 1b, ..., Nb)), script generated"; ki_fp_filters: Connector*:*_2x??-1SH*; Datasheet: ~; Description_: "Generic shielded connector, double row, 02x44, row letter last pin numbering scheme (pin number consists of a number for the row and a letter for the pin index in this row. 1a, ..., Na; 1b, ..., Nb)), script generated"; ki_keywords: connector
pins: 1a Pin_1a, 1b Pin_1b, 2a Pin_2a, 2b Pin_2b, 3a Pin_3a, 3b Pin_3b, 4a Pin_4a, 4b Pin_4b, 5a Pin_5a, 5b Pin_5b, 6a Pin_6a, 6b Pin_6b, 7a Pin_7a, 7b Pin_7b, 8a Pin_8a, 8b Pin_8b, 9a Pin_9a, 9b Pin_9b, 10a Pin_10a, 10b Pin_10b, 11a Pin_11a, 11b Pin_11b, 12a Pin_12a, 12b Pin_12b, 13a Pin_13a, 13b Pin_13b, 14a Pin_14a, 14b Pin_14b, 15a Pin_15a, 15b Pin_15b, 16a Pin_16a, 16b Pin_16b, 17a Pin_17a, 17b Pin_17b, 18a Pin_18a, 18b Pin_18b, 19a Pin_19a, 19b Pin_19b, 20a Pin_20a, 20b Pin_20b, 21a Pin_21a, 21b Pin_21b, 22a Pin_22a, 22b Pin_22b, 23a Pin_23a, 23b Pin_23b, 24a Pin_24a, 24b Pin_24b, 25a Pin_25a, 25b Pin_25b, 26a Pin_26a, 26b Pin_26b, 27a Pin_27a, 27b Pin_27b, 28a Pin_28a, 28b Pin_28b, 29a Pin_29a, 29b Pin_29b, 30a Pin_30a, 30b Pin_30b, 31a Pin_31a, 31b Pin_31b, 32a Pin_32a, 32b Pin_32b, 33a Pin_33a, 33b Pin_33b, 34a Pin_34a, 34b Pin_34b, 35a Pin_35a, 35b Pin_35b, 36a Pin_36a, 36b Pin_36b, 37a Pin_37a, 37b Pin_37b, 38a Pin_38a, 38b Pin_38b, 39a Pin_39a, 39b Pin_39b, 40a Pin_40a, 40b Pin_40b, 41a Pin_41a, 41b Pin_41b, 42a Pin_42a, 42b Pin_42b, 43a Pin_43a, 43b Pin_43b, 44a Pin_44a, 44b Pin_44b, SH Shield

## Conn_02x45_Row_Letter_First_Shielded
designator *  value Conn_02x45_Row_Letter_First_Shielded  Reference: J
"Generic shielded connector, double row, 02x45, row letter first pin numbering scheme (pin number consists of a letter for the row and a number for the pin index in this row. a1, ..., aN; b1, ..., bN), script generated"; ki_fp_filters: Connector*:*_2x??-1SH*; Datasheet: ~; Description_: "Generic shielded connector, double row, 02x45, row letter first pin numbering scheme (pin number consists of a letter for the row and a number for the pin index in this row. a1, ..., aN; b1, ..., bN), script generated"; ki_keywords: connector
pins: a1 Pin_a1, a2 Pin_a2, a3 Pin_a3, a4 Pin_a4, a5 Pin_a5, a6 Pin_a6, a7 Pin_a7, a8 Pin_a8, a9 Pin_a9, a10 Pin_a10, a11 Pin_a11, a12 Pin_a12, a13 Pin_a13, a14 Pin_a14, a15 Pin_a15, a16 Pin_a16, a17 Pin_a17, a18 Pin_a18, a19 Pin_a19, a20 Pin_a20, a21 Pin_a21, a22 Pin_a22, a23 Pin_a23, a24 Pin_a24, a25 Pin_a25, a26 Pin_a26, a27 Pin_a27, a28 Pin_a28, a29 Pin_a29, a30 Pin_a30, a31 Pin_a31, a32 Pin_a32, a33 Pin_a33, a34 Pin_a34, a35 Pin_a35, a36 Pin_a36, a37 Pin_a37, a38 Pin_a38, a39 Pin_a39, a40 Pin_a40, a41 Pin_a41, a42 Pin_a42, a43 Pin_a43, a44 Pin_a44, a45 Pin_a45, b1 Pin_b1, b2 Pin_b2, b3 Pin_b3, b4 Pin_b4, b5 Pin_b5, b6 Pin_b6, b7 Pin_b7, b8 Pin_b8, b9 Pin_b9, b10 Pin_b10, b11 Pin_b11, b12 Pin_b12, b13 Pin_b13, b14 Pin_b14, b15 Pin_b15, b16 Pin_b16, b17 Pin_b17, b18 Pin_b18, b19 Pin_b19, b20 Pin_b20, b21 Pin_b21, b22 Pin_b22, b23 Pin_b23, b24 Pin_b24, b25 Pin_b25, b26 Pin_b26, b27 Pin_b27, b28 Pin_b28, b29 Pin_b29, b30 Pin_b30, b31 Pin_b31, b32 Pin_b32, b33 Pin_b33, b34 Pin_b34, b35 Pin_b35, b36 Pin_b36, b37 Pin_b37, b38 Pin_b38, b39 Pin_b39, b40 Pin_b40, b41 Pin_b41, b42 Pin_b42, b43 Pin_b43, b44 Pin_b44, b45 Pin_b45, SH Shield

## Conn_02x45_Row_Letter_Last_Shielded
designator *  value Conn_02x45_Row_Letter_Last_Shielded  Reference: J
"Generic shielded connector, double row, 02x45, row letter last pin numbering scheme (pin number consists of a number for the row and a letter for the pin index in this row. 1a, ..., Na; 1b, ..., Nb)), script generated"; ki_fp_filters: Connector*:*_2x??-1SH*; Datasheet: ~; Description_: "Generic shielded connector, double row, 02x45, row letter last pin numbering scheme (pin number consists of a number for the row and a letter for the pin index in this row. 1a, ..., Na; 1b, ..., Nb)), script generated"; ki_keywords: connector
pins: 1a Pin_1a, 1b Pin_1b, 2a Pin_2a, 2b Pin_2b, 3a Pin_3a, 3b Pin_3b, 4a Pin_4a, 4b Pin_4b, 5a Pin_5a, 5b Pin_5b, 6a Pin_6a, 6b Pin_6b, 7a Pin_7a, 7b Pin_7b, 8a Pin_8a, 8b Pin_8b, 9a Pin_9a, 9b Pin_9b, 10a Pin_10a, 10b Pin_10b, 11a Pin_11a, 11b Pin_11b, 12a Pin_12a, 12b Pin_12b, 13a Pin_13a, 13b Pin_13b, 14a Pin_14a, 14b Pin_14b, 15a Pin_15a, 15b Pin_15b, 16a Pin_16a, 16b Pin_16b, 17a Pin_17a, 17b Pin_17b, 18a Pin_18a, 18b Pin_18b, 19a Pin_19a, 19b Pin_19b, 20a Pin_20a, 20b Pin_20b, 21a Pin_21a, 21b Pin_21b, 22a Pin_22a, 22b Pin_22b, 23a Pin_23a, 23b Pin_23b, 24a Pin_24a, 24b Pin_24b, 25a Pin_25a, 25b Pin_25b, 26a Pin_26a, 26b Pin_26b, 27a Pin_27a, 27b Pin_27b, 28a Pin_28a, 28b Pin_28b, 29a Pin_29a, 29b Pin_29b, 30a Pin_30a, 30b Pin_30b, 31a Pin_31a, 31b Pin_31b, 32a Pin_32a, 32b Pin_32b, 33a Pin_33a, 33b Pin_33b, 34a Pin_34a, 34b Pin_34b, 35a Pin_35a, 35b Pin_35b, 36a Pin_36a, 36b Pin_36b, 37a Pin_37a, 37b Pin_37b, 38a Pin_38a, 38b Pin_38b, 39a Pin_39a, 39b Pin_39b, 40a Pin_40a, 40b Pin_40b, 41a Pin_41a, 41b Pin_41b, 42a Pin_42a, 42b Pin_42b, 43a Pin_43a, 43b Pin_43b, 44a Pin_44a, 44b Pin_44b, 45a Pin_45a, 45b Pin_45b, SH Shield

## Conn_02x46_Row_Letter_First_Shielded
designator *  value Conn_02x46_Row_Letter_First_Shielded  Reference: J
"Generic shielded connector, double row, 02x46, row letter first pin numbering scheme (pin number consists of a letter for the row and a number for the pin index in this row. a1, ..., aN; b1, ..., bN), script generated"; ki_fp_filters: Connector*:*_2x??-1SH*; Datasheet: ~; Description_: "Generic shielded connector, double row, 02x46, row letter first pin numbering scheme (pin number consists of a letter for the row and a number for the pin index in this row. a1, ..., aN; b1, ..., bN), script generated"; ki_keywords: connector
pins: a1 Pin_a1, a2 Pin_a2, a3 Pin_a3, a4 Pin_a4, a5 Pin_a5, a6 Pin_a6, a7 Pin_a7, a8 Pin_a8, a9 Pin_a9, a10 Pin_a10, a11 Pin_a11, a12 Pin_a12, a13 Pin_a13, a14 Pin_a14, a15 Pin_a15, a16 Pin_a16, a17 Pin_a17, a18 Pin_a18, a19 Pin_a19, a20 Pin_a20, a21 Pin_a21, a22 Pin_a22, a23 Pin_a23, a24 Pin_a24, a25 Pin_a25, a26 Pin_a26, a27 Pin_a27, a28 Pin_a28, a29 Pin_a29, a30 Pin_a30, a31 Pin_a31, a32 Pin_a32, a33 Pin_a33, a34 Pin_a34, a35 Pin_a35, a36 Pin_a36, a37 Pin_a37, a38 Pin_a38, a39 Pin_a39, a40 Pin_a40, a41 Pin_a41, a42 Pin_a42, a43 Pin_a43, a44 Pin_a44, a45 Pin_a45, a46 Pin_a46, b1 Pin_b1, b2 Pin_b2, b3 Pin_b3, b4 Pin_b4, b5 Pin_b5, b6 Pin_b6, b7 Pin_b7, b8 Pin_b8, b9 Pin_b9, b10 Pin_b10, b11 Pin_b11, b12 Pin_b12, b13 Pin_b13, b14 Pin_b14, b15 Pin_b15, b16 Pin_b16, b17 Pin_b17, b18 Pin_b18, b19 Pin_b19, b20 Pin_b20, b21 Pin_b21, b22 Pin_b22, b23 Pin_b23, b24 Pin_b24, b25 Pin_b25, b26 Pin_b26, b27 Pin_b27, b28 Pin_b28, b29 Pin_b29, b30 Pin_b30, b31 Pin_b31, b32 Pin_b32, b33 Pin_b33, b34 Pin_b34, b35 Pin_b35, b36 Pin_b36, b37 Pin_b37, b38 Pin_b38, b39 Pin_b39, b40 Pin_b40, b41 Pin_b41, b42 Pin_b42, b43 Pin_b43, b44 Pin_b44, b45 Pin_b45, b46 Pin_b46, SH Shield

## Conn_02x46_Row_Letter_Last_Shielded
designator *  value Conn_02x46_Row_Letter_Last_Shielded  Reference: J
"Generic shielded connector, double row, 02x46, row letter last pin numbering scheme (pin number consists of a number for the row and a letter for the pin index in this row. 1a, ..., Na; 1b, ..., Nb)), script generated"; ki_fp_filters: Connector*:*_2x??-1SH*; Datasheet: ~; Description_: "Generic shielded connector, double row, 02x46, row letter last pin numbering scheme (pin number consists of a number for the row and a letter for the pin index in this row. 1a, ..., Na; 1b, ..., Nb)), script generated"; ki_keywords: connector
pins: 1a Pin_1a, 1b Pin_1b, 2a Pin_2a, 2b Pin_2b, 3a Pin_3a, 3b Pin_3b, 4a Pin_4a, 4b Pin_4b, 5a Pin_5a, 5b Pin_5b, 6a Pin_6a, 6b Pin_6b, 7a Pin_7a, 7b Pin_7b, 8a Pin_8a, 8b Pin_8b, 9a Pin_9a, 9b Pin_9b, 10a Pin_10a, 10b Pin_10b, 11a Pin_11a, 11b Pin_11b, 12a Pin_12a, 12b Pin_12b, 13a Pin_13a, 13b Pin_13b, 14a Pin_14a, 14b Pin_14b, 15a Pin_15a, 15b Pin_15b, 16a Pin_16a, 16b Pin_16b, 17a Pin_17a, 17b Pin_17b, 18a Pin_18a, 18b Pin_18b, 19a Pin_19a, 19b Pin_19b, 20a Pin_20a, 20b Pin_20b, 21a Pin_21a, 21b Pin_21b, 22a Pin_22a, 22b Pin_22b, 23a Pin_23a, 23b Pin_23b, 24a Pin_24a, 24b Pin_24b, 25a Pin_25a, 25b Pin_25b, 26a Pin_26a, 26b Pin_26b, 27a Pin_27a, 27b Pin_27b, 28a Pin_28a, 28b Pin_28b, 29a Pin_29a, 29b Pin_29b, 30a Pin_30a, 30b Pin_30b, 31a Pin_31a, 31b Pin_31b, 32a Pin_32a, 32b Pin_32b, 33a Pin_33a, 33b Pin_33b, 34a Pin_34a, 34b Pin_34b, 35a Pin_35a, 35b Pin_35b, 36a Pin_36a, 36b Pin_36b, 37a Pin_37a, 37b Pin_37b, 38a Pin_38a, 38b Pin_38b, 39a Pin_39a, 39b Pin_39b, 40a Pin_40a, 40b Pin_40b, 41a Pin_41a, 41b Pin_41b, 42a Pin_42a, 42b Pin_42b, 43a Pin_43a, 43b Pin_43b, 44a Pin_44a, 44b Pin_44b, 45a Pin_45a, 45b Pin_45b, 46a Pin_46a, 46b Pin_46b, SH Shield

## Conn_02x47_Row_Letter_First_Shielded
designator *  value Conn_02x47_Row_Letter_First_Shielded  Reference: J
"Generic shielded connector, double row, 02x47, row letter first pin numbering scheme (pin number consists of a letter for the row and a number for the pin index in this row. a1, ..., aN; b1, ..., bN), script generated"; ki_fp_filters: Connector*:*_2x??-1SH*; Datasheet: ~; Description_: "Generic shielded connector, double row, 02x47, row letter first pin numbering scheme (pin number consists of a letter for the row and a number for the pin index in this row. a1, ..., aN; b1, ..., bN), script generated"; ki_keywords: connector
pins: a1 Pin_a1, a2 Pin_a2, a3 Pin_a3, a4 Pin_a4, a5 Pin_a5, a6 Pin_a6, a7 Pin_a7, a8 Pin_a8, a9 Pin_a9, a10 Pin_a10, a11 Pin_a11, a12 Pin_a12, a13 Pin_a13, a14 Pin_a14, a15 Pin_a15, a16 Pin_a16, a17 Pin_a17, a18 Pin_a18, a19 Pin_a19, a20 Pin_a20, a21 Pin_a21, a22 Pin_a22, a23 Pin_a23, a24 Pin_a24, a25 Pin_a25, a26 Pin_a26, a27 Pin_a27, a28 Pin_a28, a29 Pin_a29, a30 Pin_a30, a31 Pin_a31, a32 Pin_a32, a33 Pin_a33, a34 Pin_a34, a35 Pin_a35, a36 Pin_a36, a37 Pin_a37, a38 Pin_a38, a39 Pin_a39, a40 Pin_a40, a41 Pin_a41, a42 Pin_a42, a43 Pin_a43, a44 Pin_a44, a45 Pin_a45, a46 Pin_a46, a47 Pin_a47, b1 Pin_b1, b2 Pin_b2, b3 Pin_b3, b4 Pin_b4, b5 Pin_b5, b6 Pin_b6, b7 Pin_b7, b8 Pin_b8, b9 Pin_b9, b10 Pin_b10, b11 Pin_b11, b12 Pin_b12, b13 Pin_b13, b14 Pin_b14, b15 Pin_b15, b16 Pin_b16, b17 Pin_b17, b18 Pin_b18, b19 Pin_b19, b20 Pin_b20, b21 Pin_b21, b22 Pin_b22, b23 Pin_b23, b24 Pin_b24, b25 Pin_b25, b26 Pin_b26, b27 Pin_b27, b28 Pin_b28, b29 Pin_b29, b30 Pin_b30, b31 Pin_b31, b32 Pin_b32, b33 Pin_b33, b34 Pin_b34, b35 Pin_b35, b36 Pin_b36, b37 Pin_b37, b38 Pin_b38, b39 Pin_b39, b40 Pin_b40, b41 Pin_b41, b42 Pin_b42, b43 Pin_b43, b44 Pin_b44, b45 Pin_b45, b46 Pin_b46, b47 Pin_b47, SH Shield

## Conn_02x47_Row_Letter_Last_Shielded
designator *  value Conn_02x47_Row_Letter_Last_Shielded  Reference: J
"Generic shielded connector, double row, 02x47, row letter last pin numbering scheme (pin number consists of a number for the row and a letter for the pin index in this row. 1a, ..., Na; 1b, ..., Nb)), script generated"; ki_fp_filters: Connector*:*_2x??-1SH*; Datasheet: ~; Description_: "Generic shielded connector, double row, 02x47, row letter last pin numbering scheme (pin number consists of a number for the row and a letter for the pin index in this row. 1a, ..., Na; 1b, ..., Nb)), script generated"; ki_keywords: connector
pins: 1a Pin_1a, 1b Pin_1b, 2a Pin_2a, 2b Pin_2b, 3a Pin_3a, 3b Pin_3b, 4a Pin_4a, 4b Pin_4b, 5a Pin_5a, 5b Pin_5b, 6a Pin_6a, 6b Pin_6b, 7a Pin_7a, 7b Pin_7b, 8a Pin_8a, 8b Pin_8b, 9a Pin_9a, 9b Pin_9b, 10a Pin_10a, 10b Pin_10b, 11a Pin_11a, 11b Pin_11b, 12a Pin_12a, 12b Pin_12b, 13a Pin_13a, 13b Pin_13b, 14a Pin_14a, 14b Pin_14b, 15a Pin_15a, 15b Pin_15b, 16a Pin_16a, 16b Pin_16b, 17a Pin_17a, 17b Pin_17b, 18a Pin_18a, 18b Pin_18b, 19a Pin_19a, 19b Pin_19b, 20a Pin_20a, 20b Pin_20b, 21a Pin_21a, 21b Pin_21b, 22a Pin_22a, 22b Pin_22b, 23a Pin_23a, 23b Pin_23b, 24a Pin_24a, 24b Pin_24b, 25a Pin_25a, 25b Pin_25b, 26a Pin_26a, 26b Pin_26b, 27a Pin_27a, 27b Pin_27b, 28a Pin_28a, 28b Pin_28b, 29a Pin_29a, 29b Pin_29b, 30a Pin_30a, 30b Pin_30b, 31a Pin_31a, 31b Pin_31b, 32a Pin_32a, 32b Pin_32b, 33a Pin_33a, 33b Pin_33b, 34a Pin_34a, 34b Pin_34b, 35a Pin_35a, 35b Pin_35b, 36a Pin_36a, 36b Pin_36b, 37a Pin_37a, 37b Pin_37b, 38a Pin_38a, 38b Pin_38b, 39a Pin_39a, 39b Pin_39b, 40a Pin_40a, 40b Pin_40b, 41a Pin_41a, 41b Pin_41b, 42a Pin_42a, 42b Pin_42b, 43a Pin_43a, 43b Pin_43b, 44a Pin_44a, 44b Pin_44b, 45a Pin_45a, 45b Pin_45b, 46a Pin_46a, 46b Pin_46b, 47a Pin_47a, 47b Pin_47b, SH Shield

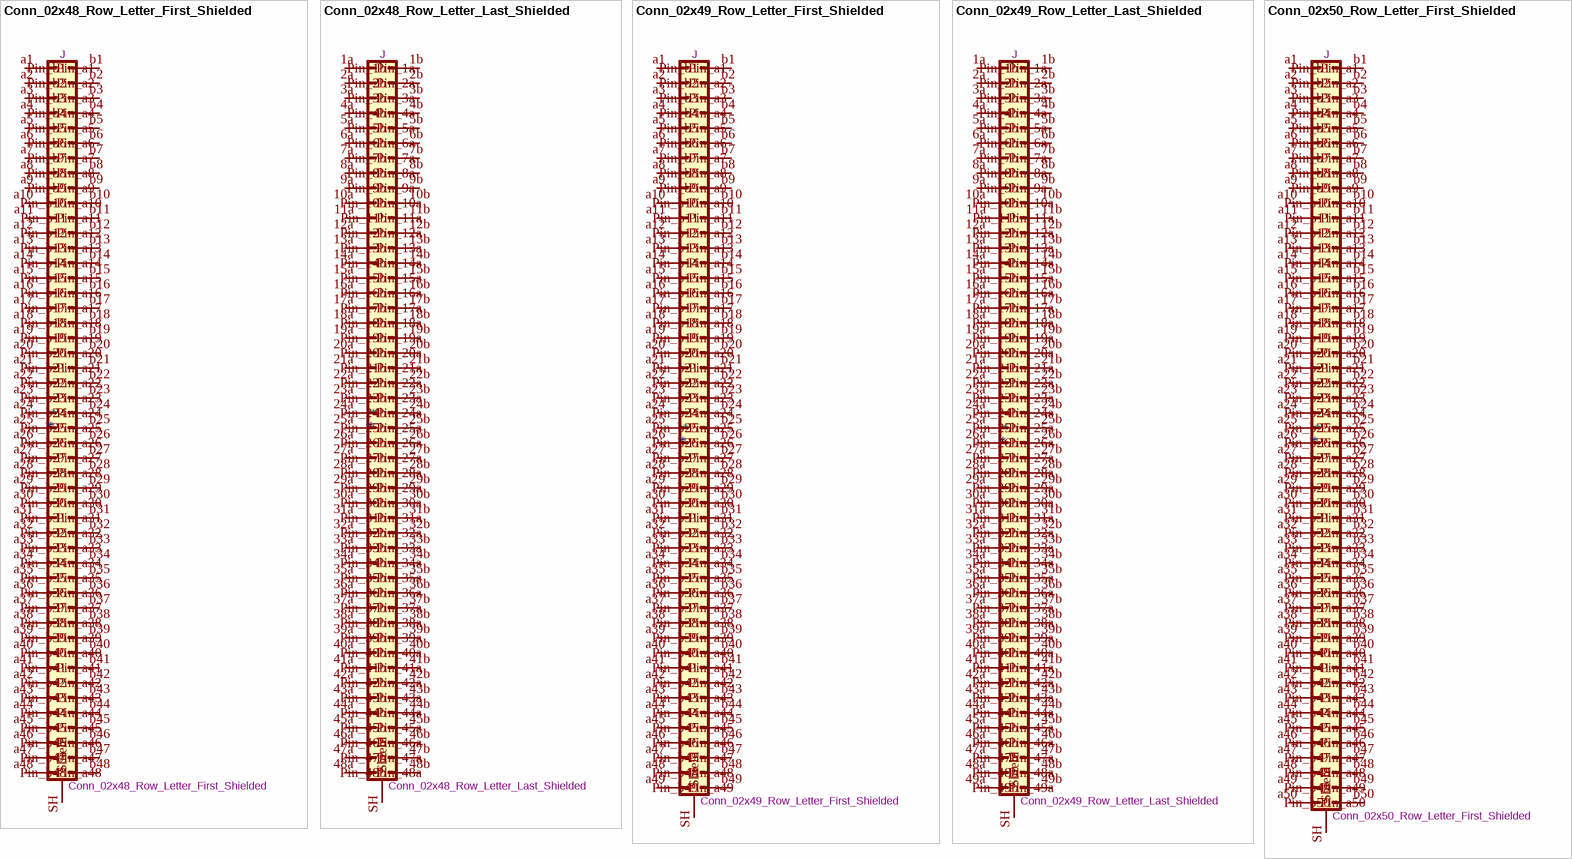
[diagram p20: symbols Conn_02x48_Row_Letter_First_Shielded to Conn_02x50_Row_Letter_First_Shielded]

## Conn_02x48_Row_Letter_First_Shielded
designator *  value Conn_02x48_Row_Letter_First_Shielded  Reference: J
"Generic shielded connector, double row, 02x48, row letter first pin numbering scheme (pin number consists of a letter for the row and a number for the pin index in this row. a1, ..., aN; b1, ..., bN), script generated"; ki_fp_filters: Connector*:*_2x??-1SH*; Datasheet: ~; Description_: "Generic shielded connector, double row, 02x48, row letter first pin numbering scheme (pin number consists of a letter for the row and a number for the pin index in this row. a1, ..., aN; b1, ..., bN), script generated"; ki_keywords: connector
pins: a1 Pin_a1, a2 Pin_a2, a3 Pin_a3, a4 Pin_a4, a5 Pin_a5, a6 Pin_a6, a7 Pin_a7, a8 Pin_a8, a9 Pin_a9, a10 Pin_a10, a11 Pin_a11, a12 Pin_a12, a13 Pin_a13, a14 Pin_a14, a15 Pin_a15, a16 Pin_a16, a17 Pin_a17, a18 Pin_a18, a19 Pin_a19, a20 Pin_a20, a21 Pin_a21, a22 Pin_a22, a23 Pin_a23, a24 Pin_a24, a25 Pin_a25, a26 Pin_a26, a27 Pin_a27, a28 Pin_a28, a29 Pin_a29, a30 Pin_a30, a31 Pin_a31, a32 Pin_a32, a33 Pin_a33, a34 Pin_a34, a35 Pin_a35, a36 Pin_a36, a37 Pin_a37, a38 Pin_a38, a39 Pin_a39, a40 Pin_a40, a41 Pin_a41, a42 Pin_a42, a43 Pin_a43, a44 Pin_a44, a45 Pin_a45, a46 Pin_a46, a47 Pin_a47, a48 Pin_a48, b1 Pin_b1, b2 Pin_b2, b3 Pin_b3, b4 Pin_b4, b5 Pin_b5, b6 Pin_b6, b7 Pin_b7, b8 Pin_b8, b9 Pin_b9, b10 Pin_b10, b11 Pin_b11, b12 Pin_b12, b13 Pin_b13, b14 Pin_b14, b15 Pin_b15, b16 Pin_b16, b17 Pin_b17, b18 Pin_b18, b19 Pin_b19, b20 Pin_b20, b21 Pin_b21, b22 Pin_b22, b23 Pin_b23, b24 Pin_b24, b25 Pin_b25, b26 Pin_b26, b27 Pin_b27, b28 Pin_b28, b29 Pin_b29, b30 Pin_b30, b31 Pin_b31, b32 Pin_b32, b33 Pin_b33, b34 Pin_b34, b35 Pin_b35, b36 Pin_b36, b37 Pin_b37, b38 Pin_b38, b39 Pin_b39, b40 Pin_b40, b41 Pin_b41, b42 Pin_b42, b43 Pin_b43, b44 Pin_b44, b45 Pin_b45, b46 Pin_b46, b47 Pin_b47, b48 Pin_b48, SH Shield

## Conn_02x48_Row_Letter_Last_Shielded
designator *  value Conn_02x48_Row_Letter_Last_Shielded  Reference: J
"Generic shielded connector, double row, 02x48, row letter last pin numbering scheme (pin number consists of a number for the row and a letter for the pin index in this row. 1a, ..., Na; 1b, ..., Nb)), script generated"; ki_fp_filters: Connector*:*_2x??-1SH*; Datasheet: ~; Description_: "Generic shielded connector, double row, 02x48, row letter last pin numbering scheme (pin number consists of a number for the row and a letter for the pin index in this row. 1a, ..., Na; 1b, ..., Nb)), script generated"; ki_keywords: connector
pins: 1a Pin_1a, 1b Pin_1b, 2a Pin_2a, 2b Pin_2b, 3a Pin_3a, 3b Pin_3b, 4a Pin_4a, 4b Pin_4b, 5a Pin_5a, 5b Pin_5b, 6a Pin_6a, 6b Pin_6b, 7a Pin_7a, 7b Pin_7b, 8a Pin_8a, 8b Pin_8b, 9a Pin_9a, 9b Pin_9b, 10a Pin_10a, 10b Pin_10b, 11a Pin_11a, 11b Pin_11b, 12a Pin_12a, 12b Pin_12b, 13a Pin_13a, 13b Pin_13b, 14a Pin_14a, 14b Pin_14b, 15a Pin_15a, 15b Pin_15b, 16a Pin_16a, 16b Pin_16b, 17a Pin_17a, 17b Pin_17b, 18a Pin_18a, 18b Pin_18b, 19a Pin_19a, 19b Pin_19b, 20a Pin_20a, 20b Pin_20b, 21a Pin_21a, 21b Pin_21b, 22a Pin_22a, 22b Pin_22b, 23a Pin_23a, 23b Pin_23b, 24a Pin_24a, 24b Pin_24b, 25a Pin_25a, 25b Pin_25b, 26a Pin_26a, 26b Pin_26b, 27a Pin_27a, 27b Pin_27b, 28a Pin_28a, 28b Pin_28b, 29a Pin_29a, 29b Pin_29b, 30a Pin_30a, 30b Pin_30b, 31a Pin_31a, 31b Pin_31b, 32a Pin_32a, 32b Pin_32b, 33a Pin_33a, 33b Pin_33b, 34a Pin_34a, 34b Pin_34b, 35a Pin_35a, 35b Pin_35b, 36a Pin_36a, 36b Pin_36b, 37a Pin_37a, 37b Pin_37b, 38a Pin_38a, 38b Pin_38b, 39a Pin_39a, 39b Pin_39b, 40a Pin_40a, 40b Pin_40b, 41a Pin_41a, 41b Pin_41b, 42a Pin_42a, 42b Pin_42b, 43a Pin_43a, 43b Pin_43b, 44a Pin_44a, 44b Pin_44b, 45a Pin_45a, 45b Pin_45b, 46a Pin_46a, 46b Pin_46b, 47a Pin_47a, 47b Pin_47b, 48a Pin_48a, 48b Pin_48b, SH Shield

## Conn_02x49_Row_Letter_First_Shielded
designator *  value Conn_02x49_Row_Letter_First_Shielded  Reference: J
"Generic shielded connector, double row, 02x49, row letter first pin numbering scheme (pin number consists of a letter for the row and a number for the pin index in this row. a1, ..., aN; b1, ..., bN), script generated"; ki_fp_filters: Connector*:*_2x??-1SH*; Datasheet: ~; Description_: "Generic shielded connector, double row, 02x49, row letter first pin numbering scheme (pin number consists of a letter for the row and a number for the pin index in this row. a1, ..., aN; b1, ..., bN), script generated"; ki_keywords: connector
pins: a1 Pin_a1, a2 Pin_a2, a3 Pin_a3, a4 Pin_a4, a5 Pin_a5, a6 Pin_a6, a7 Pin_a7, a8 Pin_a8, a9 Pin_a9, a10 Pin_a10, a11 Pin_a11, a12 Pin_a12, a13 Pin_a13, a14 Pin_a14, a15 Pin_a15, a16 Pin_a16, a17 Pin_a17, a18 Pin_a18, a19 Pin_a19, a20 Pin_a20, a21 Pin_a21, a22 Pin_a22, a23 Pin_a23, a24 Pin_a24, a25 Pin_a25, a26 Pin_a26, a27 Pin_a27, a28 Pin_a28, a29 Pin_a29, a30 Pin_a30, a31 Pin_a31, a32 Pin_a32, a33 Pin_a33, a34 Pin_a34, a35 Pin_a35, a36 Pin_a36, a37 Pin_a37, a38 Pin_a38, a39 Pin_a39, a40 Pin_a40, a41 Pin_a41, a42 Pin_a42, a43 Pin_a43, a44 Pin_a44, a45 Pin_a45, a46 Pin_a46, a47 Pin_a47, a48 Pin_a48, a49 Pin_a49, b1 Pin_b1, b2 Pin_b2, b3 Pin_b3, b4 Pin_b4, b5 Pin_b5, b6 Pin_b6, b7 Pin_b7, b8 Pin_b8, b9 Pin_b9, b10 Pin_b10, b11 Pin_b11, b12 Pin_b12, b13 Pin_b13, b14 Pin_b14, b15 Pin_b15, b16 Pin_b16, b17 Pin_b17, b18 Pin_b18, b19 Pin_b19, b20 Pin_b20, b21 Pin_b21, b22 Pin_b22, b23 Pin_b23, b24 Pin_b24, b25 Pin_b25, b26 Pin_b26, b27 Pin_b27, b28 Pin_b28, b29 Pin_b29, b30 Pin_b30, b31 Pin_b31, b32 Pin_b32, b33 Pin_b33, b34 Pin_b34, b35 Pin_b35, b36 Pin_b36, b37 Pin_b37, b38 Pin_b38, b39 Pin_b39, b40 Pin_b40, b41 Pin_b41, b42 Pin_b42, b43 Pin_b43, b44 Pin_b44, b45 Pin_b45, b46 Pin_b46, b47 Pin_b47, b48 Pin_b48, b49 Pin_b49, SH Shield

## Conn_02x49_Row_Letter_Last_Shielded
designator *  value Conn_02x49_Row_Letter_Last_Shielded  Reference: J
"Generic shielded connector, double row, 02x49, row letter last pin numbering scheme (pin number consists of a number for the row and a letter for the pin index in this row. 1a, ..., Na; 1b, ..., Nb)), script generated"; ki_fp_filters: Connector*:*_2x??-1SH*; Datasheet: ~; Description_: "Generic shielded connector, double row, 02x49, row letter last pin numbering scheme (pin number consists of a number for the row and a letter for the pin index in this row. 1a, ..., Na; 1b, ..., Nb)), script generated"; ki_keywords: connector
pins: 1a Pin_1a, 1b Pin_1b, 2a Pin_2a, 2b Pin_2b, 3a Pin_3a, 3b Pin_3b, 4a Pin_4a, 4b Pin_4b, 5a Pin_5a, 5b Pin_5b, 6a Pin_6a, 6b Pin_6b, 7a Pin_7a, 7b Pin_7b, 8a Pin_8a, 8b Pin_8b, 9a Pin_9a, 9b Pin_9b, 10a Pin_10a, 10b Pin_10b, 11a Pin_11a, 11b Pin_11b, 12a Pin_12a, 12b Pin_12b, 13a Pin_13a, 13b Pin_13b, 14a Pin_14a, 14b Pin_14b, 15a Pin_15a, 15b Pin_15b, 16a Pin_16a, 16b Pin_16b, 17a Pin_17a, 17b Pin_17b, 18a Pin_18a, 18b Pin_18b, 19a Pin_19a, 19b Pin_19b, 20a Pin_20a, 20b Pin_20b, 21a Pin_21a, 21b Pin_21b, 22a Pin_22a, 22b Pin_22b, 23a Pin_23a, 23b Pin_23b, 24a Pin_24a, 24b Pin_24b, 25a Pin_25a, 25b Pin_25b, 26a Pin_26a, 26b Pin_26b, 27a Pin_27a, 27b Pin_27b, 28a Pin_28a, 28b Pin_28b, 29a Pin_29a, 29b Pin_29b, 30a Pin_30a, 30b Pin_30b, 31a Pin_31a, 31b Pin_31b, 32a Pin_32a, 32b Pin_32b, 33a Pin_33a, 33b Pin_33b, 34a Pin_34a, 34b Pin_34b, 35a Pin_35a, 35b Pin_35b, 36a Pin_36a, 36b Pin_36b, 37a Pin_37a, 37b Pin_37b, 38a Pin_38a, 38b Pin_38b, 39a Pin_39a, 39b Pin_39b, 40a Pin_40a, 40b Pin_40b, 41a Pin_41a, 41b Pin_41b, 42a Pin_42a, 42b Pin_42b, 43a Pin_43a, 43b Pin_43b, 44a Pin_44a, 44b Pin_44b, 45a Pin_45a, 45b Pin_45b, 46a Pin_46a, 46b Pin_46b, 47a Pin_47a, 47b Pin_47b, 48a Pin_48a, 48b Pin_48b, 49a Pin_49a, 49b Pin_49b, SH Shield

## Conn_02x50_Row_Letter_First_Shielded
designator *  value Conn_02x50_Row_Letter_First_Shielded  Reference: J
"Generic shielded connector, double row, 02x50, row letter first pin numbering scheme (pin number consists of a letter for the row and a number for the pin index in this row. a1, ..., aN; b1, ..., bN), script generated"; ki_fp_filters: Connector*:*_2x??-1SH*; Datasheet: ~; Description_: "Generic shielded connector, double row, 02x50, row letter first pin numbering scheme (pin number consists of a letter for the row and a number for the pin index in this row. a1, ..., aN; b1, ..., bN), script generated"; ki_keywords: connector
pins: a1 Pin_a1, a2 Pin_a2, a3 Pin_a3, a4 Pin_a4, a5 Pin_a5, a6 Pin_a6, a7 Pin_a7, a8 Pin_a8, a9 Pin_a9, a10 Pin_a10, a11 Pin_a11, a12 Pin_a12, a13 Pin_a13, a14 Pin_a14, a15 Pin_a15, a16 Pin_a16, a17 Pin_a17, a18 Pin_a18, a19 Pin_a19, a20 Pin_a20, a21 Pin_a21, a22 Pin_a22, a23 Pin_a23, a24 Pin_a24, a25 Pin_a25, a26 Pin_a26, a27 Pin_a27, a28 Pin_a28, a29 Pin_a29, a30 Pin_a30, a31 Pin_a31, a32 Pin_a32, a33 Pin_a33, a34 Pin_a34, a35 Pin_a35, a36 Pin_a36, a37 Pin_a37, a38 Pin_a38, a39 Pin_a39, a40 Pin_a40, a41 Pin_a41, a42 Pin_a42, a43 Pin_a43, a44 Pin_a44, a45 Pin_a45, a46 Pin_a46, a47 Pin_a47, a48 Pin_a48, a49 Pin_a49, a50 Pin_a50, b1 Pin_b1, b2 Pin_b2, b3 Pin_b3, b4 Pin_b4, b5 Pin_b5, b6 Pin_b6, b7 Pin_b7, b8 Pin_b8, b9 Pin_b9, b10 Pin_b10, b11 Pin_b11, b12 Pin_b12, b13 Pin_b13, b14 Pin_b14, b15 Pin_b15, b16 Pin_b16, b17 Pin_b17, b18 Pin_b18, b19 Pin_b19, b20 Pin_b20, b21 Pin_b21, b22 Pin_b22, b23 Pin_b23, b24 Pin_b24, b25 Pin_b25, b26 Pin_b26, b27 Pin_b27, b28 Pin_b28, b29 Pin_b29, b30 Pin_b30, b31 Pin_b31, b32 Pin_b32, b33 Pin_b33, b34 Pin_b34, b35 Pin_b35, b36 Pin_b36, b37 Pin_b37, b38 Pin_b38, b39 Pin_b39, b40 Pin_b40, b41 Pin_b41, b42 Pin_b42, b43 Pin_b43, b44 Pin_b44, b45 Pin_b45, b46 Pin_b46, b47 Pin_b47, b48 Pin_b48, b49 Pin_b49, b50 Pin_b50, SH Shield

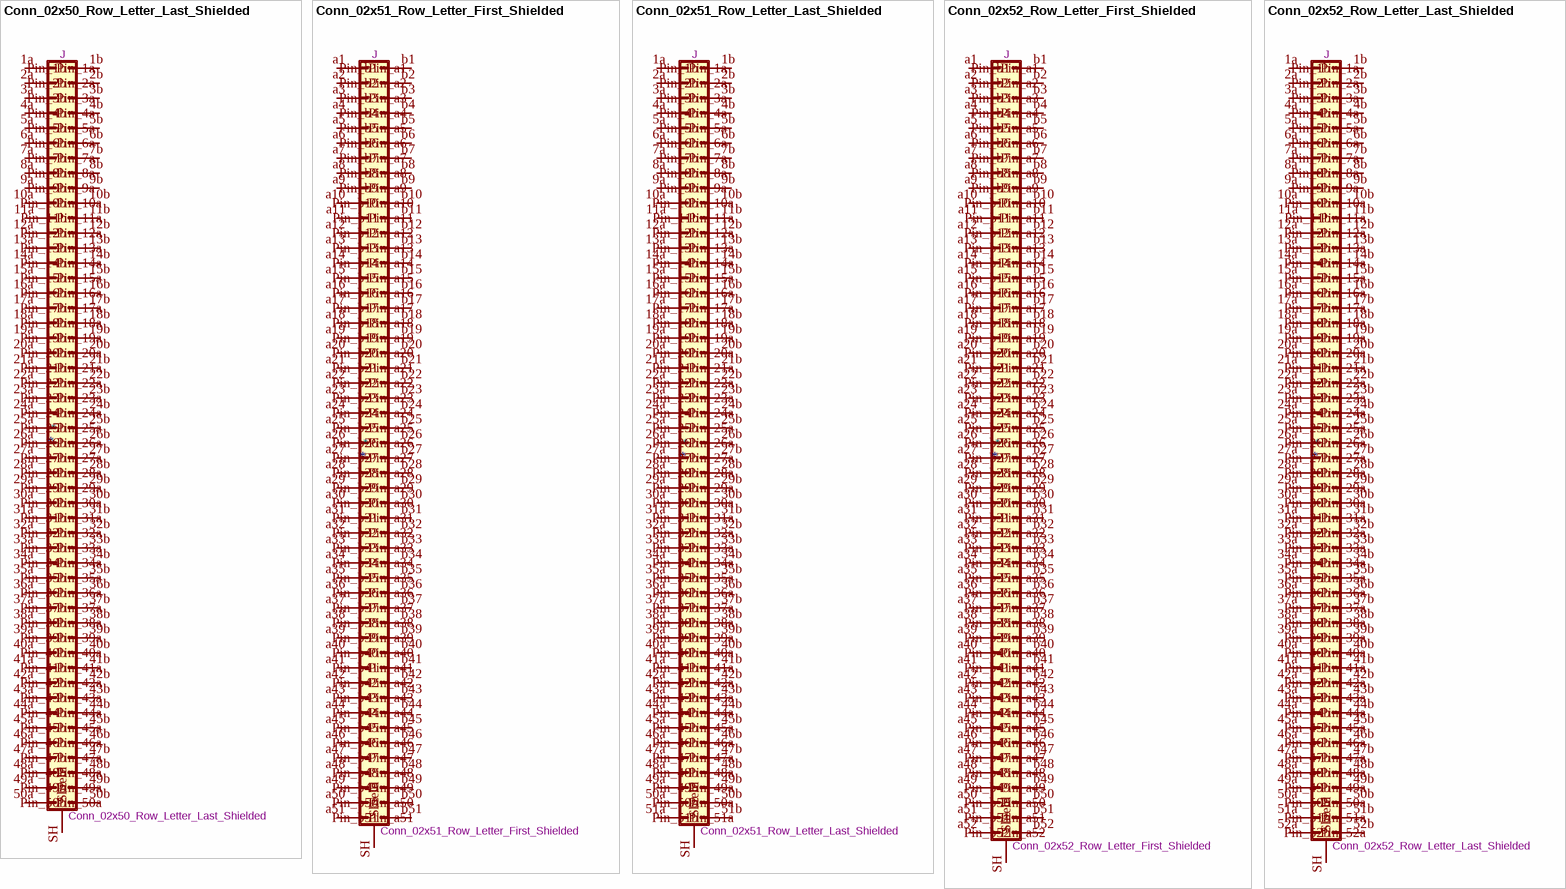
[diagram p21: symbols Conn_02x50_Row_Letter_Last_Shielded to Conn_02x52_Row_Letter_Last_Shielded]

## Conn_02x50_Row_Letter_Last_Shielded
designator *  value Conn_02x50_Row_Letter_Last_Shielded  Reference: J
"Generic shielded connector, double row, 02x50, row letter last pin numbering scheme (pin number consists of a number for the row and a letter for the pin index in this row. 1a, ..., Na; 1b, ..., Nb)), script generated"; ki_fp_filters: Connector*:*_2x??-1SH*; Datasheet: ~; Description_: "Generic shielded connector, double row, 02x50, row letter last pin numbering scheme (pin number consists of a number for the row and a letter for the pin index in this row. 1a, ..., Na; 1b, ..., Nb)), script generated"; ki_keywords: connector
pins: 1a Pin_1a, 1b Pin_1b, 2a Pin_2a, 2b Pin_2b, 3a Pin_3a, 3b Pin_3b, 4a Pin_4a, 4b Pin_4b, 5a Pin_5a, 5b Pin_5b, 6a Pin_6a, 6b Pin_6b, 7a Pin_7a, 7b Pin_7b, 8a Pin_8a, 8b Pin_8b, 9a Pin_9a, 9b Pin_9b, 10a Pin_10a, 10b Pin_10b, 11a Pin_11a, 11b Pin_11b, 12a Pin_12a, 12b Pin_12b, 13a Pin_13a, 13b Pin_13b, 14a Pin_14a, 14b Pin_14b, 15a Pin_15a, 15b Pin_15b, 16a Pin_16a, 16b Pin_16b, 17a Pin_17a, 17b Pin_17b, 18a Pin_18a, 18b Pin_18b, 19a Pin_19a, 19b Pin_19b, 20a Pin_20a, 20b Pin_20b, 21a Pin_21a, 21b Pin_21b, 22a Pin_22a, 22b Pin_22b, 23a Pin_23a, 23b Pin_23b, 24a Pin_24a, 24b Pin_24b, 25a Pin_25a, 25b Pin_25b, 26a Pin_26a, 26b Pin_26b, 27a Pin_27a, 27b Pin_27b, 28a Pin_28a, 28b Pin_28b, 29a Pin_29a, 29b Pin_29b, 30a Pin_30a, 30b Pin_30b, 31a Pin_31a, 31b Pin_31b, 32a Pin_32a, 32b Pin_32b, 33a Pin_33a, 33b Pin_33b, 34a Pin_34a, 34b Pin_34b, 35a Pin_35a, 35b Pin_35b, 36a Pin_36a, 36b Pin_36b, 37a Pin_37a, 37b Pin_37b, 38a Pin_38a, 38b Pin_38b, 39a Pin_39a, 39b Pin_39b, 40a Pin_40a, 40b Pin_40b, 41a Pin_41a, 41b Pin_41b, 42a Pin_42a, 42b Pin_42b, 43a Pin_43a, 43b Pin_43b, 44a Pin_44a, 44b Pin_44b, 45a Pin_45a, 45b Pin_45b, 46a Pin_46a, 46b Pin_46b, 47a Pin_47a, 47b Pin_47b, 48a Pin_48a, 48b Pin_48b, 49a Pin_49a, 49b Pin_49b, 50a Pin_50a, 50b Pin_50b, SH Shield

## Conn_02x51_Row_Letter_First_Shielded
designator *  value Conn_02x51_Row_Letter_First_Shielded  Reference: J
"Generic shielded connector, double row, 02x51, row letter first pin numbering scheme (pin number consists of a letter for the row and a number for the pin index in this row. a1, ..., aN; b1, ..., bN), script generated"; ki_fp_filters: Connector*:*_2x??-1SH*; Datasheet: ~; Description_: "Generic shielded connector, double row, 02x51, row letter first pin numbering scheme (pin number consists of a letter for the row and a number for the pin index in this row. a1, ..., aN; b1, ..., bN), script generated"; ki_keywords: connector
pins: a1 Pin_a1, a2 Pin_a2, a3 Pin_a3, a4 Pin_a4, a5 Pin_a5, a6 Pin_a6, a7 Pin_a7, a8 Pin_a8, a9 Pin_a9, a10 Pin_a10, a11 Pin_a11, a12 Pin_a12, a13 Pin_a13, a14 Pin_a14, a15 Pin_a15, a16 Pin_a16, a17 Pin_a17, a18 Pin_a18, a19 Pin_a19, a20 Pin_a20, a21 Pin_a21, a22 Pin_a22, a23 Pin_a23, a24 Pin_a24, a25 Pin_a25, a26 Pin_a26, a27 Pin_a27, a28 Pin_a28, a29 Pin_a29, a30 Pin_a30, a31 Pin_a31, a32 Pin_a32, a33 Pin_a33, a34 Pin_a34, a35 Pin_a35, a36 Pin_a36, a37 Pin_a37, a38 Pin_a38, a39 Pin_a39, a40 Pin_a40, a41 Pin_a41, a42 Pin_a42, a43 Pin_a43, a44 Pin_a44, a45 Pin_a45, a46 Pin_a46, a47 Pin_a47, a48 Pin_a48, a49 Pin_a49, a50 Pin_a50, a51 Pin_a51, b1 Pin_b1, b2 Pin_b2, b3 Pin_b3, b4 Pin_b4, b5 Pin_b5, b6 Pin_b6, b7 Pin_b7, b8 Pin_b8, b9 Pin_b9, b10 Pin_b10, b11 Pin_b11, b12 Pin_b12, b13 Pin_b13, b14 Pin_b14, b15 Pin_b15, b16 Pin_b16, b17 Pin_b17, b18 Pin_b18, b19 Pin_b19, b20 Pin_b20, b21 Pin_b21, b22 Pin_b22, b23 Pin_b23, b24 Pin_b24, b25 Pin_b25, b26 Pin_b26, b27 Pin_b27, b28 Pin_b28, b29 Pin_b29, b30 Pin_b30, b31 Pin_b31, b32 Pin_b32, b33 Pin_b33, b34 Pin_b34, b35 Pin_b35, b36 Pin_b36, b37 Pin_b37, b38 Pin_b38, b39 Pin_b39, b40 Pin_b40, b41 Pin_b41, b42 Pin_b42, b43 Pin_b43, b44 Pin_b44, b45 Pin_b45, b46 Pin_b46, b47 Pin_b47, b48 Pin_b48, b49 Pin_b49, b50 Pin_b50, b51 Pin_b51, SH Shield

## Conn_02x51_Row_Letter_Last_Shielded
designator *  value Conn_02x51_Row_Letter_Last_Shielded  Reference: J
"Generic shielded connector, double row, 02x51, row letter last pin numbering scheme (pin number consists of a number for the row and a letter for the pin index in this row. 1a, ..., Na; 1b, ..., Nb)), script generated"; ki_fp_filters: Connector*:*_2x??-1SH*; Datasheet: ~; Description_: "Generic shielded connector, double row, 02x51, row letter last pin numbering scheme (pin number consists of a number for the row and a letter for the pin index in this row. 1a, ..., Na; 1b, ..., Nb)), script generated"; ki_keywords: connector
pins: 1a Pin_1a, 1b Pin_1b, 2a Pin_2a, 2b Pin_2b, 3a Pin_3a, 3b Pin_3b, 4a Pin_4a, 4b Pin_4b, 5a Pin_5a, 5b Pin_5b, 6a Pin_6a, 6b Pin_6b, 7a Pin_7a, 7b Pin_7b, 8a Pin_8a, 8b Pin_8b, 9a Pin_9a, 9b Pin_9b, 10a Pin_10a, 10b Pin_10b, 11a Pin_11a, 11b Pin_11b, 12a Pin_12a, 12b Pin_12b, 13a Pin_13a, 13b Pin_13b, 14a Pin_14a, 14b Pin_14b, 15a Pin_15a, 15b Pin_15b, 16a Pin_16a, 16b Pin_16b, 17a Pin_17a, 17b Pin_17b, 18a Pin_18a, 18b Pin_18b, 19a Pin_19a, 19b Pin_19b, 20a Pin_20a, 20b Pin_20b, 21a Pin_21a, 21b Pin_21b, 22a Pin_22a, 22b Pin_22b, 23a Pin_23a, 23b Pin_23b, 24a Pin_24a, 24b Pin_24b, 25a Pin_25a, 25b Pin_25b, 26a Pin_26a, 26b Pin_26b, 27a Pin_27a, 27b Pin_27b, 28a Pin_28a, 28b Pin_28b, 29a Pin_29a, 29b Pin_29b, 30a Pin_30a, 30b Pin_30b, 31a Pin_31a, 31b Pin_31b, 32a Pin_32a, 32b Pin_32b, 33a Pin_33a, 33b Pin_33b, 34a Pin_34a, 34b Pin_34b, 35a Pin_35a, 35b Pin_35b, 36a Pin_36a, 36b Pin_36b, 37a Pin_37a, 37b Pin_37b, 38a Pin_38a, 38b Pin_38b, 39a Pin_39a, 39b Pin_39b, 40a Pin_40a, 40b Pin_40b, 41a Pin_41a, 41b Pin_41b, 42a Pin_42a, 42b Pin_42b, 43a Pin_43a, 43b Pin_43b, 44a Pin_44a, 44b Pin_44b, 45a Pin_45a, 45b Pin_45b, 46a Pin_46a, 46b Pin_46b, 47a Pin_47a, 47b Pin_47b, 48a Pin_48a, 48b Pin_48b, 49a Pin_49a, 49b Pin_49b, 50a Pin_50a, 50b Pin_50b, 51a Pin_51a, 51b Pin_51b, SH Shield